# Altium footprint library MODULE_ESP32_DEVKIT_V1.PcbLib: 1 footprints
Each footprint in its own frame and in the unit in brackets; x right, y up, seen from the top. Pads: shape width x height; smd on the part's side, far side on the other; paste and mask are expansions set on the pad; w line width, h text height; cw(c..) or ccw(c..) is an arc to the next point about the centre after c.
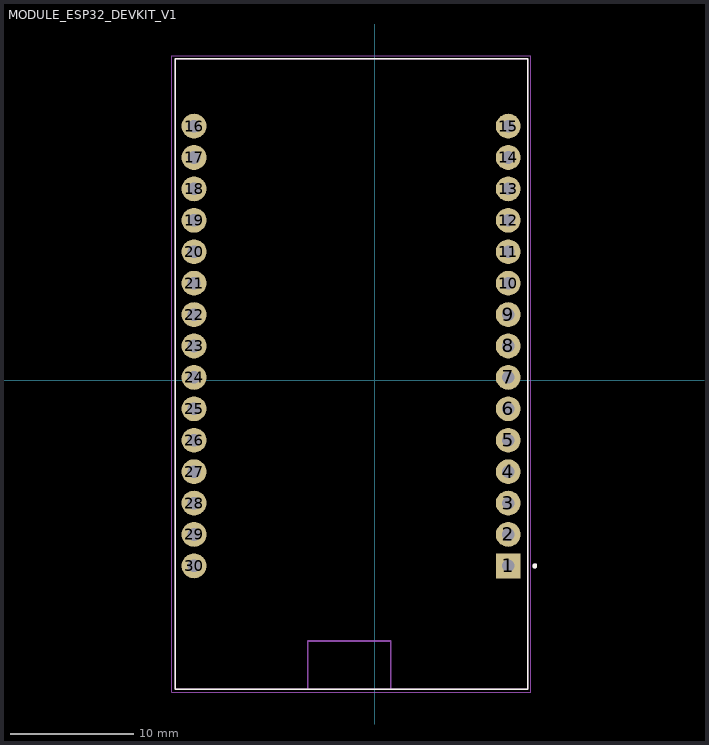
[diagram p0: the footprint, top view; thin cyan lines are the x and y axes]

## MODULE_ESP32_DEVKIT_V1 [mm]
height 6.8
pads (30):
  rect 2x2 / inner round 2 / far side rect 2x2 hole 1.02: 1(10.795,-15.007)
  round 2 hole 1.02: 2(10.795,-12.467) 3(10.795,-9.927) 4(10.795,-7.387) 5(10.795,-4.847) 6(10.795,-2.307) 7(10.795,0.233) 8(10.795,2.773) 9(10.795,5.313) 10(10.795,7.853) 11(10.795,10.393) 12(10.795,12.933) 13(10.795,15.473) 14(10.795,18.013) 15(10.795,20.553) 16(-14.605,20.553) 17(-14.605,18.013) 18(-14.605,15.473) 19(-14.605,12.933) 20(-14.605,10.393) 21(-14.605,7.853) 22(-14.605,5.313) 23(-14.605,2.773) 24(-14.605,0.233) 25(-14.605,-2.307) 26(-14.605,-4.847) 27(-14.605,-7.387) 28(-14.605,-9.927) 29(-14.605,-12.467) 30(-14.605,-15.007)
Top Overlay:
  circle w0.2: c12.945,-15.007 r0.1
  lines w0.127: -16.135,-24.967 12.375,-24.967 ; -16.135,-24.967 -5.405,-24.967 1.306,-24.967 12.375,-24.967 ; -16.135,-24.967 -16.135,25.983 ; -16.135,-24.967 -16.135,25.983 ; -16.135,25.983 12.375,25.983 ; -16.135,25.983 -10.685,25.983 7.005,25.983 12.375,25.983 ; 12.375,-24.967 12.375,25.983 ; 12.375,-24.967 12.375,25.983
Assembly Top:
  circle w0.2: c12.945,-15.007 r0.1
  lines w0.127: -5.405,-24.967 -5.405,-21.077 1.306,-21.077 1.306,-24.967 ; -5.405,-24.967 -16.135,-24.967 -16.135,25.983 -10.685,25.983 7.005,25.983 12.375,25.983 12.375,-24.967 1.306,-24.967 ; -5.405,-24.967 1.306,-24.967
Courtyard Top:
  lines w0.05: -16.385,-25.217 12.625,-25.217 12.625,26.233 -16.385,26.233 -16.385,-25.217
3D body "step_temp.STEP": height 7.05, standoff -6, extent -16.005,-25.661 12.195,26.789